# Altium footprint library 3AGFuse.PcbLib: 1 footprints
Each footprint in its own frame and in the unit in brackets; x right, y up, seen from the top. Pads: shape width x height; smd on the part's side, far side on the other; paste and mask are expansions set on the pad; w line width, h text height; cw(c..) or ccw(c..) is an arc to the next point about the centre after c.
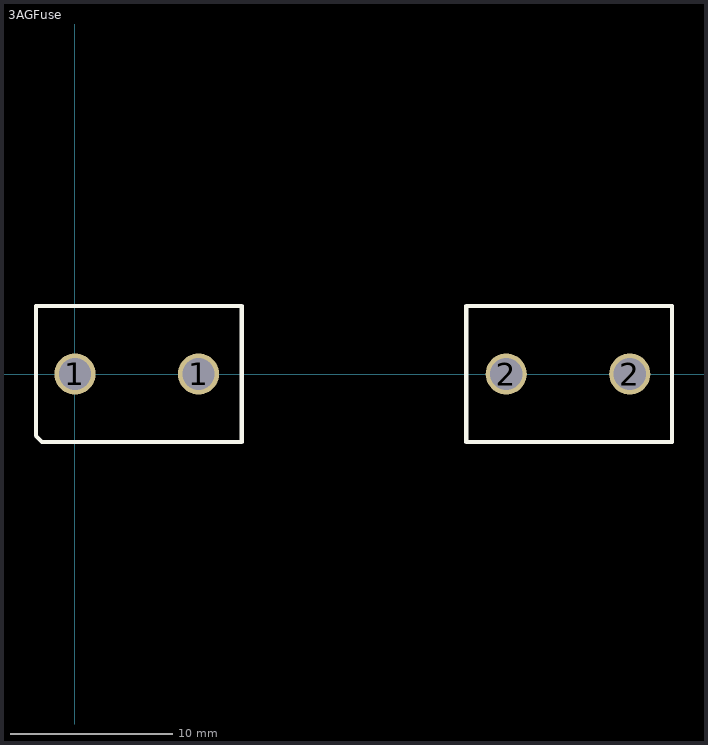
[diagram p0: the footprint, top view; thin cyan lines are the x and y axes]

## 3AGFuse [mil] "Locking fuse clip"
height 413.39
pads (4):
  round 100 hole 78: 1(0,0) 1(300,0) 2(1047,0) 2(1347,0)
Top Overlay:
  lines w10: -95,-150 -80,-165 405,-165 405,165 -95,165 -95,-150 ; 950,-165 950,165 1450,165 1450,-165 950,-165
3D body: height 413.39, standoff 0, extent -100,-170 1455,170